# Altium footprint library VSSOP-19(5.1X3.0).PcbLib: 1 footprints
Each footprint in its own frame and in the unit in brackets; x right, y up, seen from the top. Pads: shape width x height; smd on the part's side, far side on the other; paste and mask are expansions set on the pad; w line width, h text height; cw(c..) or ccw(c..) is an arc to the next point about the centre after c.
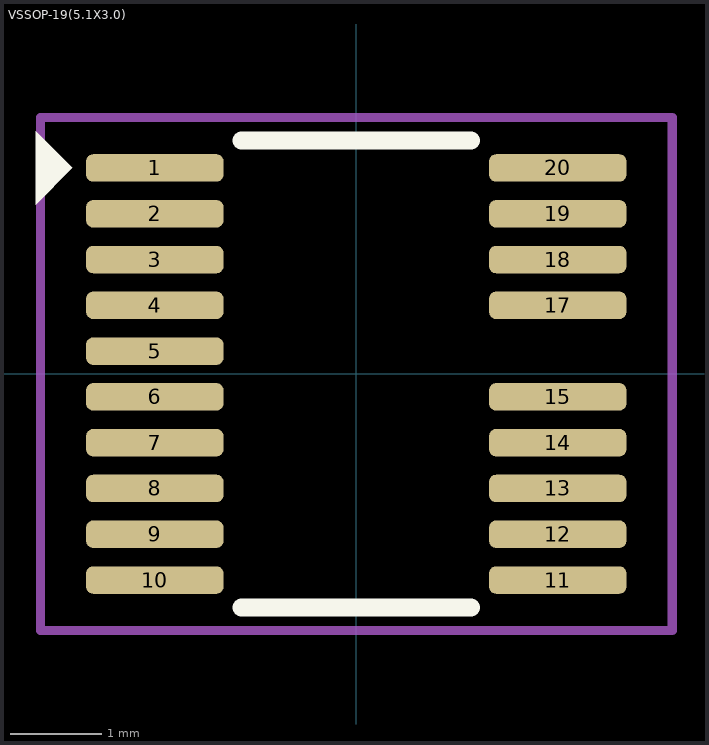
[diagram p0: the footprint, top view; thin cyan lines are the x and y axes]

## VSSOP-19(5.1X3.0) [mm]
pads (19):
  rrect50% 1.5x0.3 smd: 1(-2.2,2.25) 2(-2.2,1.75) 3(-2.2,1.25) 4(-2.2,0.75) 5(-2.2,0.25) 6(-2.2,-0.25) 7(-2.2,-0.75) 8(-2.2,-1.25) 9(-2.2,-1.75) 10(-2.2,-2.25) 11(2.2,-2.25) 12(2.2,-1.75) 13(2.2,-1.25) 14(2.2,-0.75) 15(2.2,-0.25) 17(2.2,0.75) 18(2.2,1.25) 19(2.2,1.75) 20(2.2,2.25)
Top Overlay:
  region: -3.5,1.85 -3.5,2.65 -3.1,2.25
  lines w0.2: -1.25,-2.55 1.25,-2.55 ; -1.25,2.55 1.25,2.55
Top Courtyard:
  lines w0.1: -3.45,-2.8 3.45,-2.8 3.45,2.8 -3.45,2.8 -3.45,-2.8
3D body "DGX0019A.stp": height 1.05, standoff 0, extent -2.45,-2.55 2.45,2.55